# Altium footprint library AltiumOpenLibs.PcbLib: 173 footprints (part 1 of 11)
Each footprint in its own frame and in the unit in brackets; x right, y up, seen from the top. Pads: shape width x height; smd on the part's side, far side on the other; paste and mask are expansions set on the pad; w line width, h text height; cw(c..) or ccw(c..) is an arc to the next point about the centre after c.
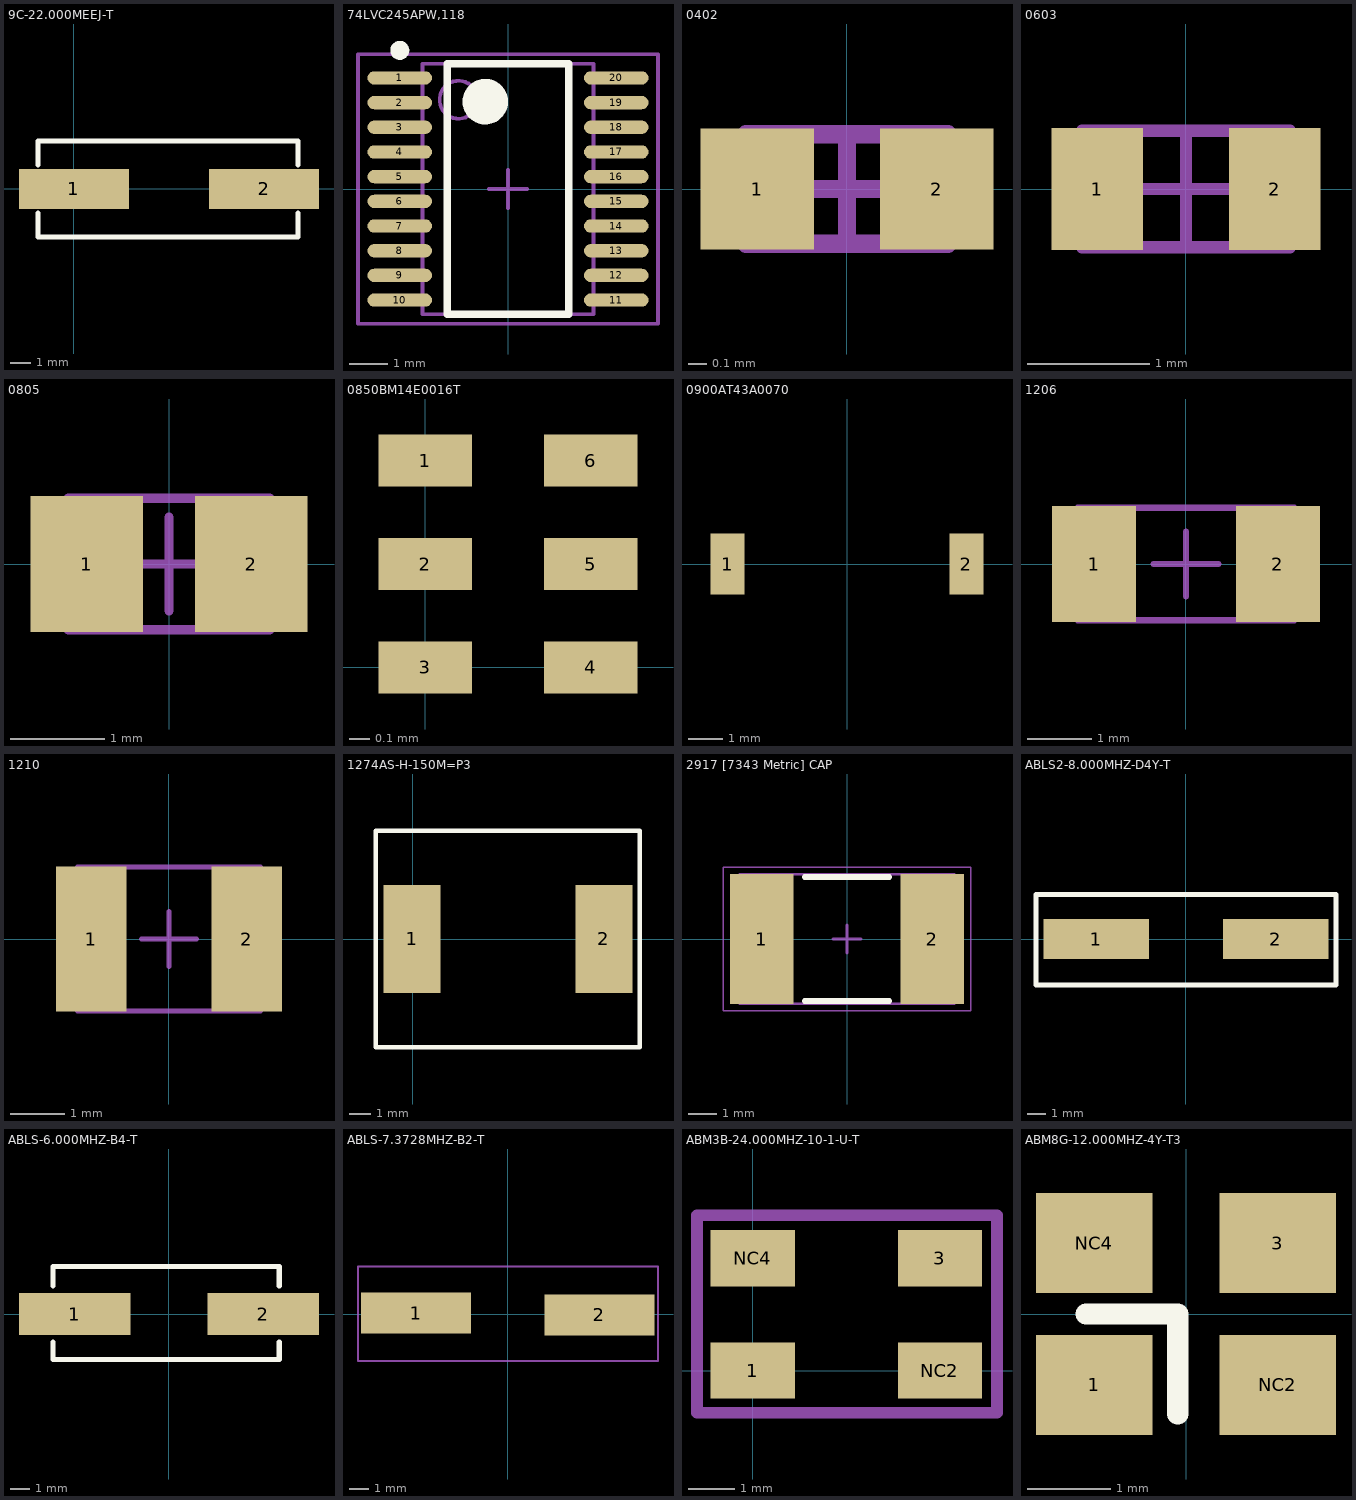
[diagram p0: the footprints below, top view; thin cyan lines are the x and y axes]

## 9C-22.000MEEJ-T [mm]
pads (2):
  rect 5.5x2 smd: 1(0,0) 2(9.5,0)
Top Overlay:
  lines w0.254: -1.8,-1.2 -1.8,-2.4 11.2,-2.4 11.2,-1.2 ; -1.8,1.2 -1.8,2.4 11.2,2.4 11.2,1.2

## 74LVC245APW,118 [mm]
pads (20):
  oval 1.7x0.35 smd: 1(-2.85,2.925) 2(-2.85,2.275) 3(-2.85,1.625) 4(-2.85,0.975) 5(-2.85,0.325) 6(-2.85,-0.325) 7(-2.85,-0.975) 8(-2.85,-1.625) 9(-2.85,-2.275) 10(-2.85,-2.925) 11(2.85,-2.925) 12(2.85,-2.275) 13(2.85,-1.625) 14(2.85,-0.975) 15(2.85,-0.325) 16(2.85,0.325) 17(2.85,0.975) 18(2.85,1.625) 19(2.85,2.275) 20(2.85,2.925)
Top Overlay:
  circle w0.25: c-2.85,3.65 r0.125
  circle w0.6: c-0.6,2.3 r0.3
  lines w0.2: -1.6,-3.3 -1.6,3.3 1.6,3.3 1.6,-3.3 -1.6,-3.3
Mechanical 13:
  circle w0.1: c-1.3,2.35 r0.5
  lines w0.1: -2.25,-3.3 -2.25,3.3 2.25,3.3 2.25,-3.3 -2.25,-3.3
Mechanical 15:
  lines w0.1: -0.5,0 0.5,0 ; 0,-0.5 0,0.5 ; -3.95,-3.55 -3.95,3.55 3.95,3.55 3.95,-3.55 -3.95,-3.55
3D body: height 1.1, standoff 0.15, extent -2.25,-3.3 2.25,3.3

## 0402 [mm]
pads (2):
  rect 0.62x0.66 smd: 1(-0.49,0) 2(0.49,0)
Mechanical 13:
  lines w0.1: -0.55,-0.3 -0.55,0.3 0.55,0.3 0.55,-0.3 -0.55,-0.3
Mechanical 15:
  lines w0.1: -0.3,0 0.3,0 ; 0,-0.3 0,0.3
3D body: height 0.4, standoff 0, extent -0.32,-0.3 0.32,0.3
3D body: height 0.4, standoff 0, extent -0.55,-0.3 -0.32,0.3
3D body: height 0.4, standoff 0, extent 0.32,-0.3 0.55,0.3

## 0603 [mm]
pads (2):
  rect 0.75x1 smd: 1(-0.725,0) 2(0.725,0)
Mechanical 13:
  lines w0.1: -0.85,-0.475 0.85,-0.475 0.85,0.475 -0.85,0.475 -0.85,-0.475
Mechanical 15:
  lines w0.1: -0.475,0 0.475,0 ; 0,-0.475 0,0.475
3D body: height 0.6, standoff 0, extent 0.57,-0.475 0.85,0.475
3D body: height 0.6, standoff 0, extent -0.85,-0.475 -0.57,0.475
3D body: height 0.6, standoff 0, extent -0.57,-0.475 0.57,0.475

## 0805 [mm]
pads (2):
  rect 1.2x1.45 smd: 1(-0.875,0) 2(0.875,0)
Mechanical 13:
  lines w0.1: -1.075,-0.7 -1.075,0.7 1.075,0.7 1.075,-0.7 -1.075,-0.7
Mechanical 15:
  lines w0.1: -0.5,0 0.5,0 ; 0,-0.5 0,0.5
3D body: height 0.65, standoff 0, extent -0.675,-0.7 0.675,0.7
3D body: height 0.65, standoff 0, extent -1.075,-0.7 -0.675,0.7
3D body: height 0.65, standoff 0, extent 0.675,-0.7 1.075,0.7

## 0850BM14E0016T [mm]
pads (6):
  rect 0.45x0.25 smd: 1(0,1) 2(0,0.5) 3(0,0) 4(0.8,0) 5(0.8,0.5) 6(0.8,1)

## 0900AT43A0070 [mm]
pads (2):
  rect 1x1.8 smd: 1(-3.5,0) 2(3.5,0)

## 1206 [mm]
pads (2):
  rect 1.3x1.8 smd: 1(-1.425,0) 2(1.425,0)
Mechanical 13:
  lines w0.1: -1.675,-0.875 1.675,-0.875 1.675,0.875 -1.675,0.875 -1.675,-0.875
Mechanical 15:
  lines w0.1: -0.5,0 0.5,0 ; 0,-0.5 0,0.5
3D body: height 0.71, standoff 0, extent 1.175,-0.875 1.675,0.875
3D body: height 0.71, standoff 0, extent -1.675,-0.875 -1.175,0.875
3D body: height 0.71, standoff 0, extent -1.175,-0.875 1.175,0.875

## 1210 [mm]
pads (2):
  rect 1.3x2.65 smd: 1(-1.425,0) 2(1.425,0)
Mechanical 13:
  lines w0.1: -1.675,-1.32 1.675,-1.32 1.675,1.32 -1.675,1.32 -1.675,-1.32
Mechanical 15:
  lines w0.1: -0.5,0 0.5,0 ; 0,-0.5 0,0.5
3D body: height 0.71, standoff 0, extent 1.175,-1.32 1.675,1.32
3D body: height 0.71, standoff 0, extent -1.675,-1.32 -1.175,1.32
3D body: height 0.71, standoff 0, extent -1.175,-1.32 1.175,1.32

## 1274AS-H-150M=P3 [mm]
height 5
pads (2):
  rect 2.65x5 smd: 1(-0.02,0) 2(8.85,0)
Top Overlay:
  lines w0.2: -1.7,-5 10.5,-5 10.5,5 -1.7,5 -1.7,-5

## 2917 [7343 Metric] CAP [mm] "Chip Capacitor, 2-Leads, Body 7.30x4.30mm, IPC Medium Density"
height 1.7
pads (2):
  rect 2.25x4.6 smd: 1(-3.025,0) 2(3.025,0)
Top Overlay:
  lines w0.2: -1.5,-2.2 1.5,-2.2 ; -1.5,2.2 1.5,2.2
Mechanical 13:
  lines w0.1: -3.8,-2.3 3.8,-2.3 3.8,2.3 -3.8,2.3 -3.8,-2.3
Mechanical 15:
  lines w0.05: -4.4,-2.55 4.4,-2.55 4.4,2.55 -4.4,2.55 -4.4,-2.55
  lines w0.1: -0.5,0 0.5,0 ; 0,-0.5 0,0.5
3D body: height 1.7, standoff 0, extent 2.5,-2.3 3.8,2.3
3D body: height 1.7, standoff 0, extent -3.8,-2.3 -2.5,2.3
3D body: height 1.7, standoff 0, extent -2.5,-2.3 2.5,2.3

## ABLS2-8.000MHZ-D4Y-T [mm]
pads (2):
  rect 5.6x2.1 smd: 1(-4.75,0) 2(4.75,0)
Top Overlay:
  lines w0.254: -7.95,-2.438 7.95,-2.438 7.95,2.362 -7.95,2.362 -7.95,-2.438
Mechanical 15:
  lines w0.1: -7.95,-2.438 -7.95,2.362 7.95,2.362 7.95,-2.438 -7.95,-2.438

## ABLS-6.000MHZ-B4-T [mm]
pads (2):
  rect 5.6x2.1 smd: 1(-4.75,0) 2(4.75,0)
Top Overlay:
  lines w0.254: -5.85,-1.4 -5.85,-2.3 5.55,-2.3 5.55,-1.4 ; -5.85,1.4 -5.85,2.4 5.55,2.4 5.55,1.4

## ABLS-7.3728MHZ-B2-T [mm]
pads (2):
  rect 5.6x2.1 smd: 1(-4.661,0.051) 2(4.661,-0.051)
Mechanical 15:
  lines w0.1: -7.62,-2.388 7.645,-2.388 7.645,2.413 -7.62,2.413 -7.62,-2.388

## ABM3B-24.000MHZ-10-1-U-T [mm]
pads (4):
  rect 1.8x1.2 smd: 1(0,0) 3(4,2.4) NC2(4,0) NC4(0,2.4)
Mechanical 15:
  lines w0.254: -1.19,-0.9 5.22,-0.9 5.22,3.32 -1.19,3.32 -1.19,-0.9

## ABM8G-12.000MHZ-4Y-T3 [mm]
pads (4):
  rect 1.4x1.2 smd mask+0.07: 1(-1.1,-0.85) 3(1.1,0.85) NC2(1.1,-0.85) NC4(-1.1,0.85)
Top Overlay:
  lines w0.254: -1.2,0 -0.1,0 -0.1,-1.2